# EAGLE library part PL-E128649B (library yantronix)
POWER LIGHT - 128X64 COG GRAPHICS LCD MODULE (PL-E128649B-FFSESW)
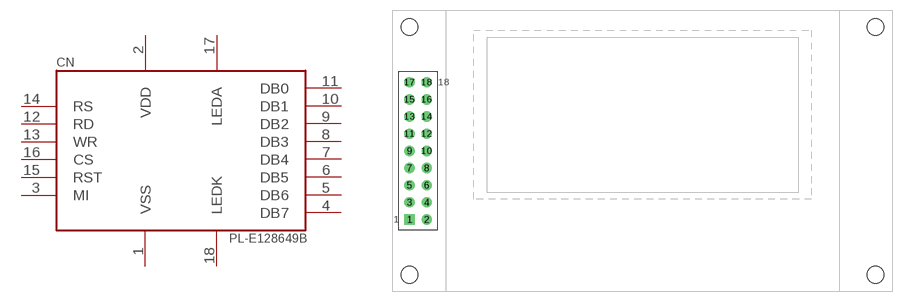
[diagram p2: symbol with the pads of LCD-CONN-128X64; footprint LCD-CONN-128X64]

Designator prefix CN

## PL-E128649B  [LCD-CONN-128X64]
1  VSS  pwr
2  VDD  pwr
3  MI  in
4  DB7
5  DB6
6  DB5
7  DB4
8  DB3
9  DB2
10  DB1
11  DB0
12  RD  in
13  WR  in
14  RS  in
15  RST  in
16  CS  in
17  LEDA  pwr
18  LEDK  pwr

## Footprint LCD-CONN-128X64 (pad centres in mm)
128X64 COG GRAPHICS LCD MODULE
drill 0.9 pad 1.524 square: 1 0,8.2
drill 0.9 pad 1.524 round: 2 2.54,8.2; 3 0,10.74; 4 2.54,10.74; 5 0,13.28; 6 2.54,13.28; 7 0,15.82; 8 2.54,15.82; 9 0,18.36; 10 2.54,18.36; 11 0,20.9; 12 2.54,20.9; 13 0,23.44; 14 2.54,23.44; 15 0,25.98; 16 2.54,25.98; 17 0,28.52; 18 2.54,28.52
hole 2.5 at 0,0
hole 2.5 at 69,0
hole 2.5 at 0,36.7
hole 2.5 at 69,36.7